# Altium integrated library Рез 10кОм.IntLib: 1 symbol
Pins are listed as number, name and electrical type; pins without a type are passive.

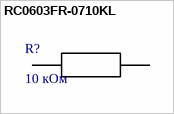
[diagram p0: symbol RC0603FR-0710KL]

## RC0603FR-0710KL
designator R?, comment 10 кОм
10 kOhms Â±1% 0.1W, 1/10W Chip Resistor 0603 (1608 Metric) Moisture Resistant Thick Film; Типоразмер: 0603; Мощность: 0.1 Вт; Точность: 1%; Напряжение: 75 В; Сопротивление: 10 кОм
footprint RESC1607X60N
pins: 1, 2